# Altium schematic symbol library USB_A.SchLib: 1 symbol
Pins are listed as number, name and electrical type; pins without a type are passive.

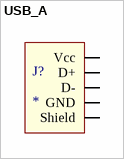
[diagram p0: symbol USB_A]

## USB_A
designator J?
pins: 1 Vcc, 2 D-, 3 D+, 4 GND, 5 Shield